# EAGLE library part CM-110 (library subieduino-lib)
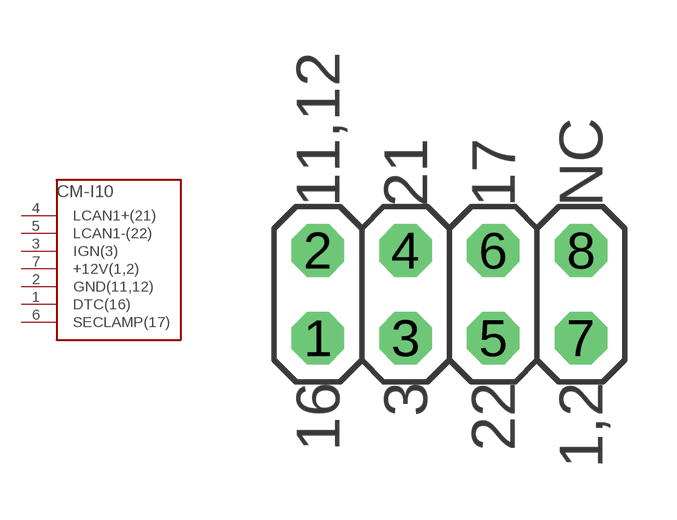
[diagram p2: symbol with the pads of CM-110; footprint CM-110]

Designator prefix CONN

## CM-110  [CM-110]
1  DTC(16)
2  GND(11,12)
3  IGN(3)
4  LCAN1+(21)
5  LCAN1-(22)
6  SECLAMP(17)
7  +12V(1,2)

## Footprint CM-110 (pad centres in mm)
PIN HEADER
drill 1.016 octagon: 1 -3.81,-1.27; 2 -3.81,1.27; 3 -1.27,-1.27; 4 -1.27,1.27; 5 1.27,-1.27; 6 1.27,1.27; 7 3.81,-1.27; 8 3.81,1.27